# Altium footprint library HAKATAYA.PcbLib: 227 footprints (part 3 of 15)
Each footprint in its own frame and in the unit in brackets; x right, y up, seen from the top. Pads: shape width x height; smd on the part's side, far side on the other; paste and mask are expansions set on the pad; w line width, h text height; cw(c..) or ccw(c..) is an arc to the next point about the centre after c.
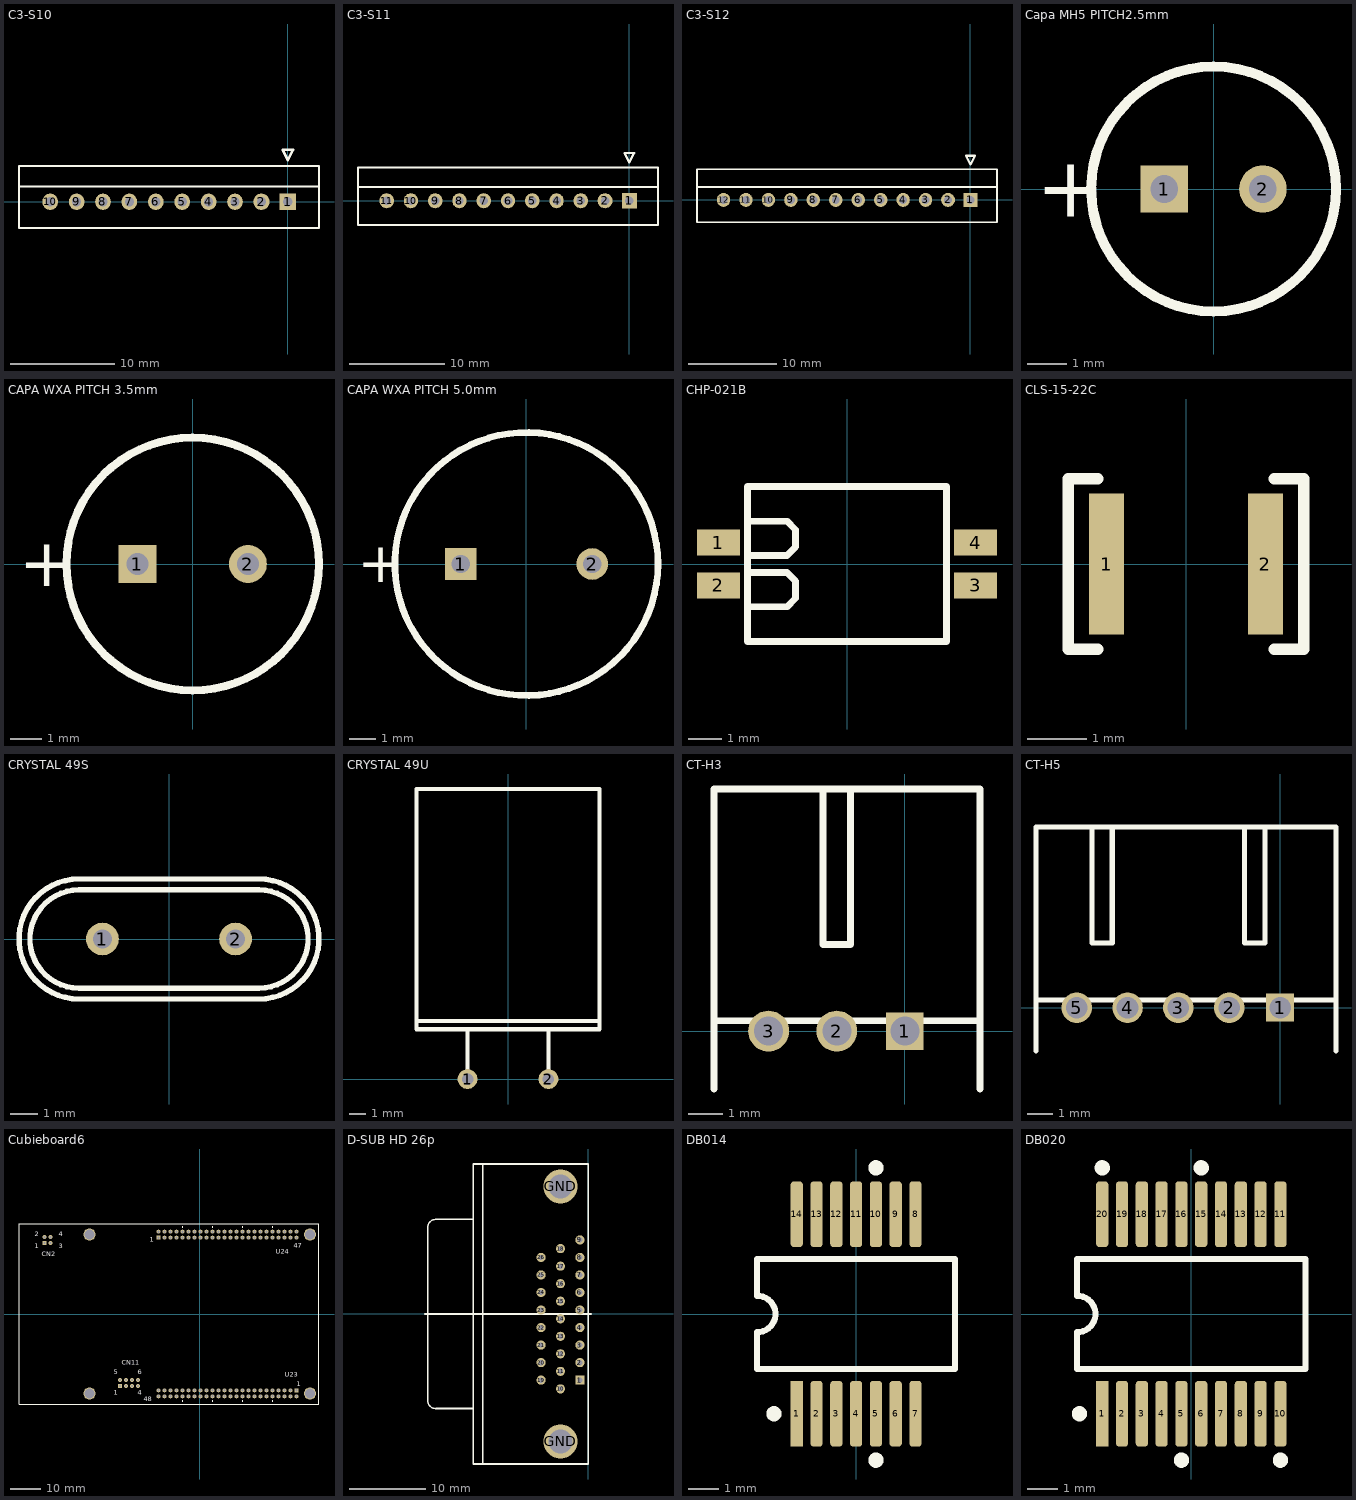
[diagram p2: the footprints below, top view; thin cyan lines are the x and y axes]

## C3-S10 [mm] "2.54"
pads (10):
  rect 1.575x1.575 hole 0.89: 1(0,0)
  round 1.575 hole 0.89: 2(-2.54,0)
  oval 1.5x1.575 hole 0.89: 3(-5.08,0) 4(-7.62,0) 5(-10.16,0) 6(-12.7,0) 7(-15.24,0) 8(-17.78,0) 9(-20.32,0) 10(-22.86,0)
Top Overlay:
  lines w0.2: -25.86,1.46 3,1.46 ; -25.86,-2.54 -25.86,3.46 3,3.46 3,-2.54 -25.86,-2.54
  lines w0.254: -0.5,5 0.5,5 0,4 -0.5,5

## C3-S11 [mm] "2.54"
pads (11):
  rect 1.575x1.575 hole 0.89: 1(0,0)
  round 1.575 hole 0.89: 2(-2.54,0)
  oval 1.5x1.575 hole 0.89: 3(-5.08,0) 4(-7.62,0) 5(-10.16,0) 6(-12.7,0) 7(-15.24,0) 8(-17.78,0) 9(-20.32,0) 10(-22.86,0) 11(-25.4,0)
Top Overlay:
  lines w0.2: -28.4,1.46 3,1.46 ; -28.4,-2.54 3,-2.54 3,3.46 -28.4,3.46 -28.4,-2.54
  lines w0.254: -0.5,5 0,4 0.5,5 -0.5,5

## C3-S12 [mm] "2.54"
pads (12):
  rect 1.575x1.575 hole 0.89: 1(0,0)
  round 1.575 hole 0.89: 2(-2.54,0)
  oval 1.5x1.575 hole 0.89: 3(-5.08,0) 4(-7.62,0) 5(-10.16,0) 6(-12.7,0) 7(-15.24,0) 8(-17.78,0) 9(-20.32,0) 10(-22.86,0) 11(-25.4,0) 12(-27.94,0)
Top Overlay:
  lines w0.2: -30.94,1.46 3,1.46 ; -30.94,-2.54 3,-2.54 3,3.46 -30.94,3.46 -30.94,-2.54
  lines w0.254: -0.5,5 0,4 0.5,5 -0.5,5

## Capa MH5 PITCH2.5mm [mm] "Capacitor, Electrolytic, Radial; Body 6.3 mm (Dia.xH typ); Pin Spacing 2.5 mm (typ)"
height 5
pads (2):
  rect 1.2x1.2 hole 0.7: 1(-1.25,0)
  round 1.2 hole 0.7: 2(1.25,0)
Top Overlay:
  circle w0.254: c0,0 r3.102
  text "+" at -4.5,-0.7 h1.52

## CAPA WXA PITCH 3.5mm [mm] "Capacitor, Electrolytic, Radial; Body 8 mm (Dia); Pin Spacing 3.5 mm (typ)"
height 9
pads (2):
  rect 1.2x1.2 hole 0.7: 1(-1.75,0)
  round 1.2 hole 0.7: 2(1.75,0)
Top Overlay:
  circle w0.254: c0,0 r4
  text "+" at -5.5,-0.7 h1.52

## CAPA WXA PITCH 5.0mm [mm] "Capacitor, Electrolytic, Radial; Body 10 mm (Dia); Pin Spacing 5 mm (typ)"
height 9
pads (2):
  rect 1.2x1.2 hole 0.7: 1(-2.5,0)
  round 1.2 hole 0.7: 2(2.5,0)
Top Overlay:
  circle w0.254: c0,0 r5
  text "+" at -6.4,-0.7 h1.52

## CHP-021B [mm] "FUJISOKU CHP-021B"
height 4.6
pads (4):
  rect 1.27x0.76 smd: 1(-3.81,0.635) 2(-3.81,-0.635) 3(3.81,-0.635) 4(3.81,0.635)
Top Overlay:
  lines w0.2: -2.95,-1.27 -1.778,-1.27 -1.524,-1.016 -1.524,-0.508 -1.778,-0.254 -2.95,-0.254 ; -2.95,0.254 -1.778,0.254 -1.524,0.508 -1.524,1.016 -1.778,1.27 -2.95,1.27 ; -2.95,-2.3 -2.95,2.3 2.95,2.3 2.95,-2.3 -2.95,-2.3

## CLS-15-22C [mm]
height 1.1
pads (2):
  rect 0.6x2.4 smd: 1(-1.35,0) 2(1.35,0)
Top Overlay:
  lines w0.2: -1.5,-1.45 -2,-1.45 -2,1.45 -1.5,1.45 ; 1.5,-1.45 2,-1.45 2,1.45 1.5,1.45

## CRYSTAL 49S [mm] "BODY 10.7 x 4.3 PITCH 4.8"
height 3.5
pads (2):
  round 1.2 hole 0.7: 1(-2.44,0) 2(2.44,0)
Top Overlay:
  lines w0.2: -3.3,-2.2 cw(c-3.3,0) -3.3,2.2 3.3,2.2 cw(c3.3,0) 3.3,-2.2 -3.3,-2.2 ; -3.3,-1.8 cw(c-3.3,0) -3.3,1.8 3.3,1.8 cw(c3.3,0) 3.3,-1.8 -3.3,-1.8

## CRYSTAL 49U [mm] "BODY 11.05 x 13.46 PITCH 4.8"
height 4.65
pads (2):
  round 1.2 hole 0.7: 1(-2.44,0) 2(2.44,0)
Top Overlay:
  lines w0.254: -5.525,3.5 5.525,3.5 ; -2.44,0 -2.44,2.846 ; 2.44,0 2.44,2.9 ; -5.525,3 -5.525,17.5 5.525,17.5 5.525,3 -5.525,3

## CT-H3 [mm] "292130 / Pitch 2.0"
height 5.8
pads (3):
  rect 1.1x1.1 hole 0.85: 1(0,0)
  round 1.2 hole 0.85: 2(-2,0) 3(-4,0)
Top Overlay:
  lines w0.2: -5.6,-1.7 -5.6,7.1 2.2,7.1 2.2,-1.7 ; -5.6,0.3 2.2,0.3 ; -2.4,7.1 -2.4,2.54 -1.6,2.54 -1.6,7.1

## CT-H5 [mm] "292130"
height 5.8
pads (5):
  rect 1.1x1.1 hole 0.85: 1(0,0)
  round 1.2 hole 0.85: 2(-2,0) 3(-4,0) 4(-6,0) 5(-8,0)
Top Overlay:
  lines w0.2: -9.6,-1.7 -9.6,7.1 2.2,7.1 2.2,-1.7 ; -9.6,0.3 2.2,0.3 ; -7.4,7.1 -7.4,2.54 -6.6,2.54 -6.6,7.1 ; -1.4,7.1 -1.4,2.54 -0.6,2.54 -0.6,7.1

## Cubieboard6 [mm]
pads (112):
  rect 1.3x1.3 hole 0.8: CN2-1(-51.75,23.65) CN11-1(-26.59,-24) U23-1(32.25,-25.46) U24-1(-13.75,25.46)
  round 1.3 hole 0.8: CN2-2(-51.75,25.65) CN2-3(-49.75,23.65) CN2-4(-49.75,25.65) CN11-2(-24.59,-24) CN11-3(-22.59,-24) CN11-4(-20.59,-24) CN11-5(-26.59,-22) CN11-6(-24.59,-22) CN11-7(-22.59,-22) CN11-8(-20.59,-22) U23-2(32.25,-27.46) U23-3(30.25,-25.46) U23-4(30.25,-27.46) U23-5(28.25,-25.46) U23-6(28.25,-27.46) U23-7(26.25,-25.46) U23-8(26.25,-27.46) U23-9(24.25,-25.46) U23-10(24.25,-27.46) U23-11(22.25,-25.46) U23-12(22.25,-27.46) U23-13(20.25,-25.46) U23-14(20.25,-27.46) U23-15(18.25,-25.46) U23-16(18.25,-27.46) U23-17(16.25,-25.46) U23-18(16.25,-27.46) U23-19(14.25,-25.46) U23-20(14.25,-27.46) U23-21(12.25,-25.46) U23-22(12.25,-27.46) U23-23(10.25,-25.46) U23-24(10.25,-27.46) U23-25(8.25,-25.46) U23-26(8.25,-27.46) U23-27(6.25,-25.46) U23-28(6.25,-27.46) U23-29(4.25,-25.46) U23-30(4.25,-27.46) U23-31(2.25,-25.46) U23-32(2.25,-27.46) U23-33(0.25,-25.46) U23-34(0.25,-27.46) U23-35(-1.75,-25.46) U23-36(-1.75,-27.46) U23-37(-3.75,-25.46) U23-38(-3.75,-27.46) U23-39(-5.75,-25.46) U23-40(-5.75,-27.46) U23-41(-7.75,-25.46) U23-42(-7.75,-27.46) U23-43(-9.75,-25.46) U23-44(-9.75,-27.46) U23-45(-11.75,-25.46) U23-46(-11.75,-27.46) U23-47(-13.75,-25.46) U23-48(-13.75,-27.46) U24-2(-13.75,27.46) U24-3(-11.75,25.46) U24-4(-11.75,27.46) U24-5(-9.75,25.46) U24-6(-9.75,27.46) U24-7(-7.75,25.46) U24-8(-7.75,27.46) U24-9(-5.75,25.46) U24-10(-5.75,27.46) U24-11(-3.75,25.46) U24-12(-3.75,27.46) U24-13(-1.75,25.46) U24-14(-1.75,27.46) U24-15(0.25,25.46) U24-16(0.25,27.46) U24-17(2.25,25.46) U24-18(2.25,27.46) U24-19(4.25,25.46) U24-20(4.25,27.46) U24-21(6.25,25.46) U24-22(6.25,27.46) U24-23(8.25,25.46) U24-24(8.25,27.46) U24-25(10.25,25.46) U24-26(10.25,27.46) U24-27(12.25,25.46) U24-28(12.25,27.46) U24-29(14.25,25.46) U24-30(14.25,27.46) U24-31(16.25,25.46) U24-32(16.25,27.46) U24-33(18.25,25.46) U24-34(18.25,27.46) U24-35(20.25,25.46) U24-36(20.25,27.46) U24-37(22.25,25.46) U24-38(22.25,27.46) U24-39(24.25,25.46) U24-40(24.25,27.46) U24-41(26.25,25.46) U24-42(26.25,27.46) U24-43(28.25,25.46) U24-44(28.25,27.46) U24-45(30.25,25.46) U24-46(30.25,27.46) U24-47(32.25,25.46) U24-48(32.25,27.46)
  round 4 hole 3.175: ""(-36.75,-26.5) ""(-36.75,26.5) ""(36.75,-26.5) ""(36.75,26.5)
Bottom Layer:
  text "3" at -47,22 h1.52
Top Overlay:
  circle w0.25: c-5.715,-29 r0.125
  circle w0.25: c-5.715,29 r0.125
  circle w0.25: c14.285,29 r0.125
  circle w0.25: c24.285,29 r0.125
  circle w0.25: c4.285,29 r0.125
  circle w0.25: c4.285,-29 r0.125
  circle w0.25: c14.285,-29 r0.125
  circle w0.25: c24.285,-29 r0.125
  lines w0.2: -60.25,-30 39.75,-30 39.75,30 -60.25,30 -60.25,-30
  text "2" at -55,26 h1.52
  text "CN11" at -26,-17 h1.52
  text "1" at -16.59,24 h1.52
  text "4" at -47,26 h1.52
  text "3" at -47,22 h1.52
  text "CN2" at -52.746,19.254 h1.52
  text "4" at -20.59,-27 h1.52
  text "6" at -20.59,-20 h1.52
  text "5" at -28.59,-20 h1.52
  text "1" at -28.59,-27 h1.52
  text "47" at 31.41,22 h1.52
  text "1" at -55,22 h1.52
  text "48" at -18.59,-29 h1.52
  text "1" at 32.41,-24 h1.52
  text "U23" at 28.41,-21 h1.52
  text "U24" at 25.41,20 h1.52
Bottom Overlay:
  circle w0.25: c-5.715,29 r0.125
  circle w0.25: c4.285,29 r0.125
  circle w0.25: c14.285,29 r0.125
  circle w0.25: c24.285,29 r0.125
  circle w0.25: c24.285,-29 r0.125
  circle w0.25: c14.285,-29 r0.125
  circle w0.25: c4.285,-29 r0.125
  circle w0.25: c-5.715,-29 r0.125
  text "47" at 31.41,22 h1.52
  text "U24" at 25.41,20 h1.52
  text "U23" at 28.41,-21 h1.52
  text "1" at 32.41,-24 h1.52
  text "48" at -18.59,-29 h1.52
  text "4" at -20.59,-27 h1.52
  text "6" at -20.59,-20 h1.52
  text "1" at -28.59,-27 h1.52
  text "5" at -28.59,-20 h1.52
  text "2" at -55,26 h1.52
  text "1" at -55,22 h1.52
  text "CN2" at -52.746,19.254 h1.52
  text "4" at -47,26 h1.52
  text "CN11" at -26,-17 h1.52
  text "1" at -16.59,24 h1.52

## D-SUB HD 26p [mm] "9,8,9"
height 12.5
pads (28):
  rect 1.19x1.19 hole 0.7: 1(-1.09,-8.64)
  round 1.19 hole 0.7: 2(-1.09,-6.35) 3(-1.09,-4.06) 4(-1.09,-1.77) 5(-1.09,0.52) 6(-1.09,2.81) 7(-1.09,5.1) 8(-1.09,7.39) 9(-1.09,9.68) 10(-3.63,-9.78) 11(-3.63,-7.49) 12(-3.63,-5.2) 13(-3.63,-2.91) 14(-3.63,-0.62) 15(-3.63,1.67) 16(-3.63,3.96) 17(-3.63,6.25) 18(-3.63,8.54) 19(-6.17,-8.64) 20(-6.17,-6.35) 21(-6.17,-4.06) 22(-6.17,-1.77) 23(-6.17,0.52) 24(-6.17,2.81) 25(-6.17,5.1) 26(-6.17,7.39)
  round 4.5 hole 3.18: GND(-3.63,-16.66) GND(-3.63,16.66)
Top Overlay:
  lines w0.2: -21.39,0 0.41,0 ; -15.06,-12.35 -19.96,-12.35 cw(c-19.96,-11.35) -20.96,-11.35 -20.96,11.35 cw(c-19.96,11.35) -19.96,12.35 -15.06,12.35 ; -13.79,-19.6 -13.79,19.6 ; -15.06,-19.6 0,-19.6 0,19.6 -15.06,19.6 -15.06,-19.6

## DB014 [mm] "SSOP, Plastic; 14 Leads; Body Width 5.3 mm; Pitch 0.65 mm"
height 2
pads (14):
  rect 0.4x2.15 smd: 1(-1.95,-3.275)
  rrect50% 0.4x2.15 smd: 2(-1.3,-3.275) 3(-0.65,-3.275) 4(0,-3.275) 5(0.65,-3.275) 6(1.3,-3.275) 7(1.95,-3.275) 8(1.95,3.275) 9(1.3,3.275) 10(0.65,3.275) 11(0,3.275) 12(-0.65,3.275) 13(-1.3,3.275) 14(-1.95,3.275)
Top Overlay:
  circle w0.25: c-2.7,-3.275 r0.125
  circle w0.25: c0.65,-4.8 r0.125
  circle w0.25: c0.65,4.8 r0.125
  lines w0.2: -3.25,-1.8 -3.25,-0.6 ccw(c-3.25,0) -3.25,0.6 -3.25,1.8 3.25,1.8 3.25,-1.8 -3.25,-1.8

## DB020 [mm] "SSOP, Plastic; 20 Leads; Body Width 5.3 mm; Pitch 0.65 mm"
height 2
pads (20):
  rect 0.4x2.15 smd: 1(-2.925,-3.275)
  rrect50% 0.4x2.15 smd: 2(-2.275,-3.275) 3(-1.625,-3.275) 4(-0.975,-3.275) 5(-0.325,-3.275) 6(0.325,-3.275) 7(0.975,-3.275) 8(1.625,-3.275) 9(2.275,-3.275) 10(2.925,-3.275) 11(2.925,3.275) 12(2.275,3.275) 13(1.625,3.275) 14(0.975,3.275) 15(0.325,3.275) 16(-0.325,3.275) 17(-0.975,3.275) 18(-1.625,3.275) 19(-2.275,3.275) 20(-2.925,3.275)
Top Overlay:
  circle w0.25: c-2.925,4.8 r0.125
  circle w0.25: c0.325,4.8 r0.125
  circle w0.25: c2.925,-4.8 r0.125
  circle w0.25: c-0.325,-4.8 r0.125
  circle w0.25: c-3.675,-3.275 r0.125
  lines w0.2: -3.75,-1.8 -3.75,-0.6 ccw(c-3.75,0) -3.75,0.6 -3.75,1.8 3.75,1.8 3.75,-1.8 -3.75,-1.8